# EAGLE library part BUCK-OKL-T/6-W12 (library Shohei)
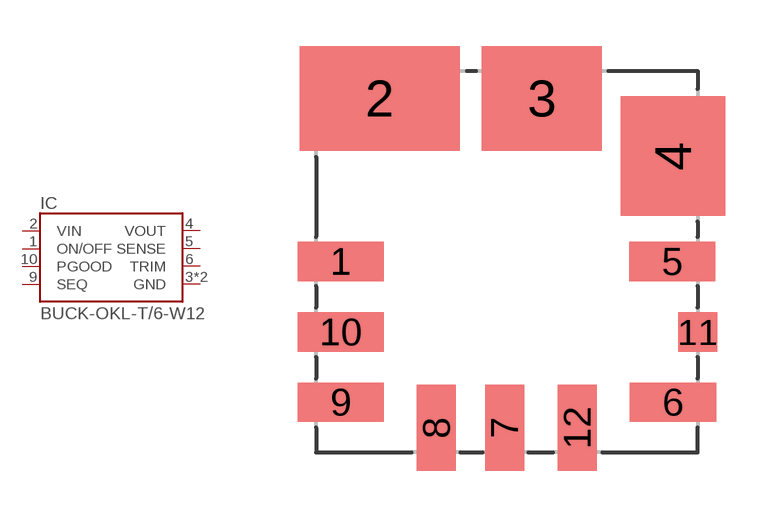
[diagram p27: symbol with the pads of BUCK-OKL-T/6-W12; footprint BUCK-OKL-T/6-W12]

Designator prefix IC

## BUCK-OKL-T/6-W12  [BUCK-OKL-T/6-W12]
1  ON/OFF
2  VIN
3  GND
4  VOUT
5  SENSE
6  TRIM
7  GND
9  SEQ
10  PGOOD

## Footprint BUCK-OKL-T/6-W12 (pad centres in mm)
smd 2.8 x 1.27: 1 -5.4,0; 5 5.37,0; 6 5.4,-4.57; 9 -5.4,-4.57; 10 -5.4,-2.29
smd 5.2 x 3.4: 2 -4.13,5.3
smd 3.9 x 3.4: 3 1.14,5.3
smd 3.4 x 3.9: 4 5.4,3.43
smd 1.27 x 2.8: 7 -0.07,-5.4; 8 -2.29,-5.4; 12 2.29,-5.4
smd 1.27 x 1.27: 11 6.2,-2.29